# Altium footprint library Footprints.PcbLib: 146 footprints (part 5 of 10)
Each footprint in its own frame and in the unit in brackets; x right, y up, seen from the top. Pads: shape width x height; smd on the part's side, far side on the other; paste and mask are expansions set on the pad; w line width, h text height; cw(c..) or ccw(c..) is an arc to the next point about the centre after c.
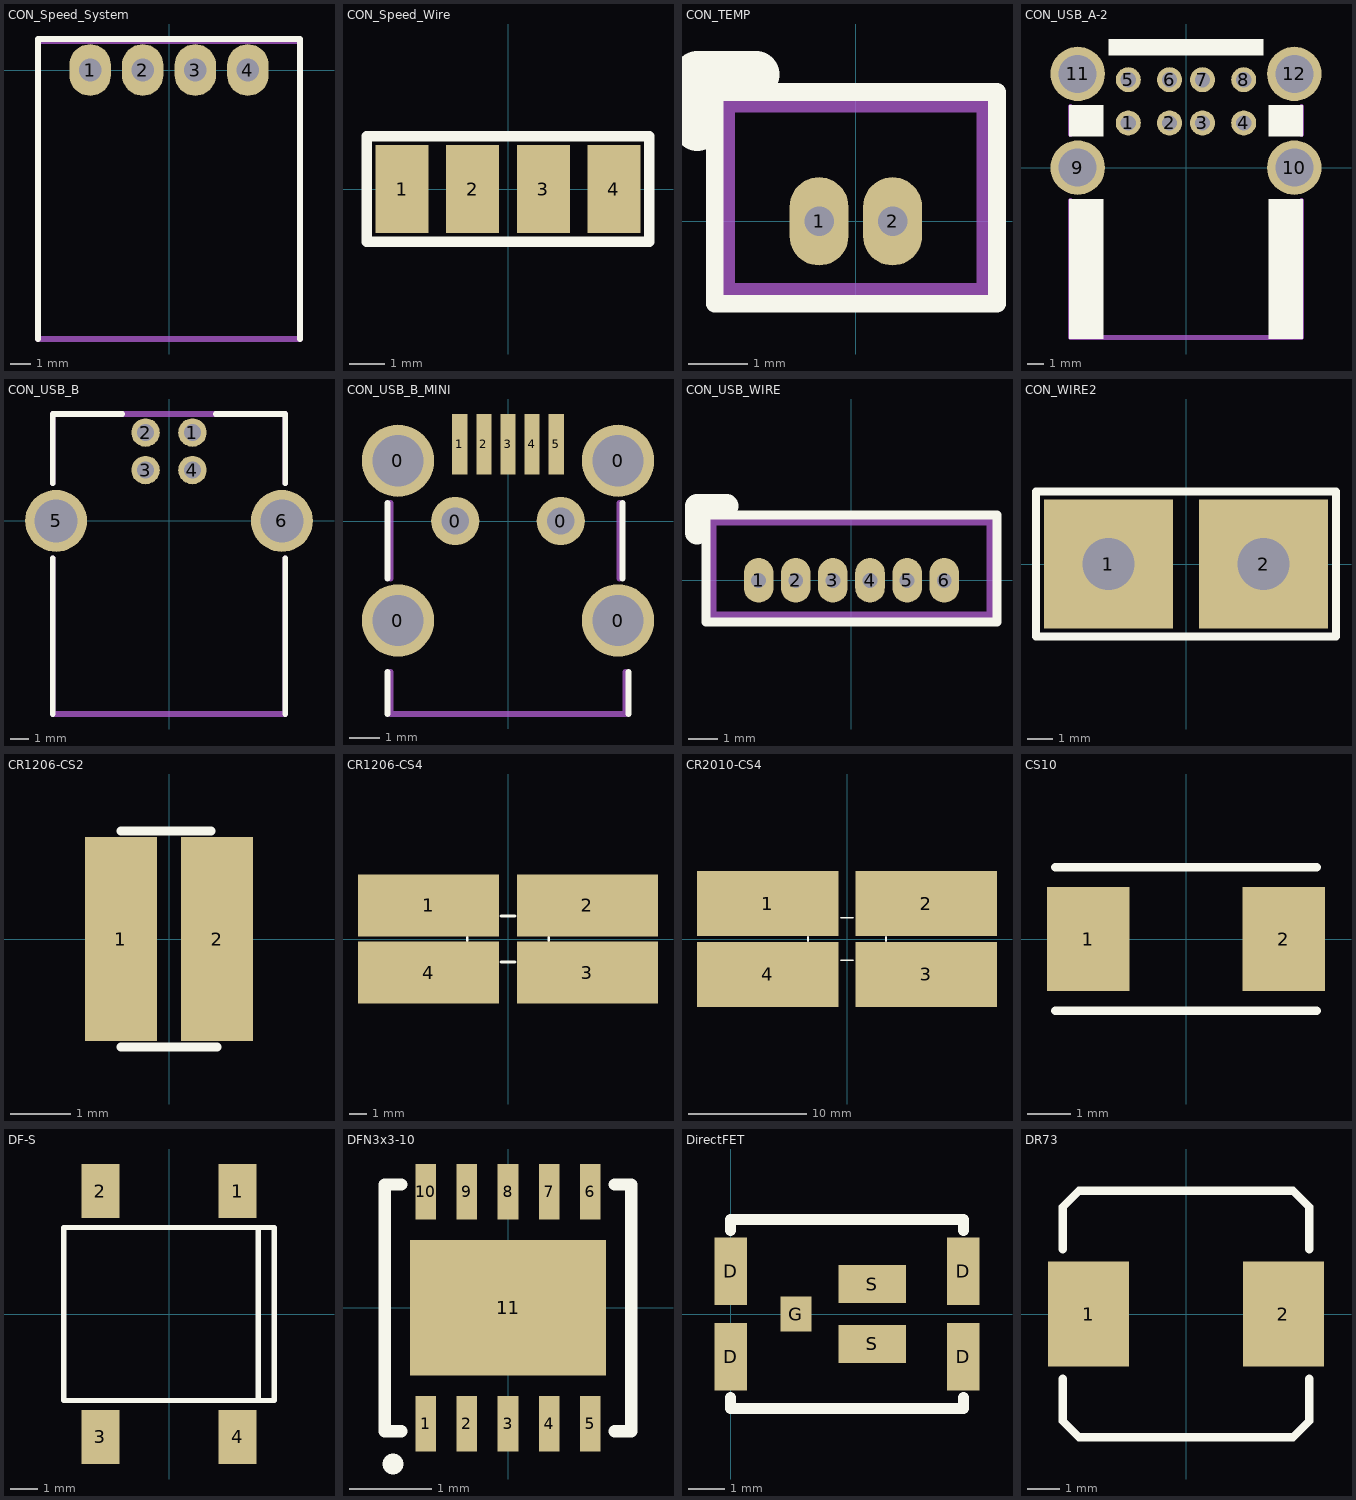
[diagram p4: the footprints below, top view; thin cyan lines are the x and y axes]

## CON_Speed_System [mm] "4-pin Speed connector"
height 4.2
pads (4):
  oval 2x2.5 hole 1.1: 1(-3.81,0) 2(-1.27,0) 3(1.27,0) 4(3.81,0)
Top Overlay:
  lines w0.3: -6.33,-13 -6.33,-1.5 -6.33,1.5 6.3,1.5 ; 6.33,-13 6.33,-1.5 6.33,1.5
Mechanical 1:
  lines w0.3: -6.33,-6.6 -6.33,-1.5 -6.33,1.4 ; 6.33,-6.6 6.33,-1.5 6.33,1.4 ; -6.33,1.4 -6.33,-13 6.33,-13 6.33,1.4 ; -6.33,1.4 6.33,1.4

## CON_Speed_Wire [mm] "4-pin Speed sensor connector - sensor side"
height 2
pads (4):
  rect 1.5x2.5 smd: 1(-3,0) 2(-1,0) 3(1,0) 4(3,0)
Top Overlay:
  lines w0.3: -4,-1.5 4,-1.5 4,1.5 -4,1.5 -4,-1.5

## CON_TEMP [mm] "Temperature Sensor Connector"
pads (2):
  oval 1x1.5 hole 0.5: 1(-0.625,0) 2(0.625,0)
Top Overlay:
  lines w0.3: -2.4,2.2 -2.4,-1.4 2.4,-1.4 2.4,2.2 -2.375,2.2
  lines w0.8: -2.7,1.6 -2.7,2.5 -1.7,2.5
Mechanical 1:
  lines w0.3: -2.2,-1.2 -2.2,2 2.2,2 2.2,-1.2 -2.2,-1.2

## CON_USB_A-2 [mm] "USB Type A Stacked Connector"
pads (12):
  round 1.52 hole 0.92: 1(-3.5,2.71) 2(-1,2.71) 3(1,2.71) 4(3.5,2.71) 5(-3.5,5.33) 6(-1,5.33) 7(1,5.33) 8(3.5,5.33)
  round 3.3 hole 2.3: 9(-6.57,0) 10(6.57,0) 11(-6.57,5.68) 12(6.57,5.68)
Top Overlay:
  rectangle: -7.1,1.9 -5,3.8
  rectangle: -7.1,-10.4 -5,-1.9
  region: 7.1,-1.9 5,-1.9 5,-10.4 7.1,-10.4
  region: 7.1,3.8 5,3.8 5,1.9 7.1,1.9
  rectangle: -4.7,6.8 4.7,7.8
Mechanical 1:
  lines w0.3: -7,-2 -7,-10.3 7,-10.3 7,-2 ; -7,2 -7,3.7 ; -4.5,7 4.5,7 ; 7,2 7,3.7

## CON_USB_B [mm] "USB Type B Connector"
pads (6):
  round 1.52 hole 0.92: 1(1.25,4.71) 2(-1.25,4.71) 3(-1.25,2.71) 4(1.25,2.71)
  round 3.3 hole 2.3: 5(-6.02,0) 6(6.02,0)
Top Overlay:
  lines w0.3: -6.2,-10.3 -6.2,-2 ; -6.2,2 -6.2,5.7 -2.5,5.7 ; 2.5,5.7 6.2,5.7 6.2,2 ; 6.2,-10.3 6.2,-2
Mechanical 1:
  lines w0.3: -6.2,-2 -6.2,-10.3 6.2,-10.3 6.2,-2 ; -6.2,2 -6.2,5.7 6.2,5.7 6.2,2

## CON_USB_B_MINI [mm] "Mini USB Type B Connector"
height 4
pads (11):
  round 2.4 hole 1.7: 0(-3.65,-3.3) 0(-3.65,2) 0(3.65,-3.3) 0(3.65,2)
  round 1.6 hole 0.9: 0(-1.75,0) 0(1.75,0)
  rect 0.5x2 smd: 1(-1.6,2.55) 2(-0.8,2.55) 3(0,2.55) 4(0.8,2.55) 5(1.6,2.55)
Top Overlay:
  lines w0.2: -4,-6.4 -4,-5 ; -4,-1.9 -4,0.6 ; 3.8,-1.9 3.8,0.6 ; 4,-6.4 4,-5
Mechanical 1:
  lines w0.2: -3.9,-5 -3.9,-6.4 3.9,-6.4 3.9,-5 ; -3.9,-1.9 -3.9,0.6 ; 3.7,-1.9 3.7,0.6

## CON_USB_WIRE [mm] "Connector for USB wires"
height 4.2
pads (6):
  oval 1x1.5 hole 0.5: 1(-3.125,0) 2(-1.875,0) 3(-0.625,0) 4(0.625,0) 5(1.875,0) 6(3.125,0)
Top Overlay:
  lines w0.3: -4.9,-1.4 4.9,-1.4 4.9,2.2 -4.9,2.2 -4.9,-1.4
  lines w0.8: -5.2,1.6 -5.2,2.5 -4.2,2.5
Mechanical 1:
  lines w0.3: -4.7,-1.2 4.7,-1.2 4.7,2 -4.7,2 -4.7,-1.2

## CON_WIRE2 [mm] "Direct wire connection"
pads (2):
  rect 5x5 hole 2: 1(-3,0) 2(3,0)
Top Overlay:
  lines w0.3: -5.8,-2.8 5.8,-2.8 5.8,2.8 -5.8,2.8 -5.8,-2.8
Bottom Overlay:
  lines w0.3: -5.8,-2.8 5.8,-2.8 5.8,2.8 -5.8,2.8 -5.8,-2.8

## CR1206-CS2 [mm]
pads (2):
  rect 1.2x3.4 smd: 1(-0.8,0) 2(0.8,0)
Top Overlay:
  lines w0.15: -0.8,-1.8 0.8,-1.8 ; -0.8,1.8 0.7,1.8

## CR1206-CS4 [mm]
pads (4):
  rect 8x3.5 smd: 1(-4.5,1.9) 2(4.5,1.9) 3(4.5,-1.9) 4(-4.5,-1.9)
Top Overlay:
  lines w0.15: -2.3,-0.1 -2.3,0.1 ; -0.4,-1.3 0.4,-1.3 ; -0.4,1.3 0.4,1.3 ; 2.3,-0.1 2.3,0.1

## CR2010-CS4 [mm]
pads (4):
  rect 12x5.5 smd: 1(-6.7,3) 2(6.7,3) 3(6.7,-3) 4(-6.7,-3)
Top Overlay:
  lines w0.15: -3.3,-0.2 -3.3,0.2 ; -0.5,-1.8 0.5,-1.8 ; -0.5,1.8 0.5,1.8 ; 3.3,-0.2 3.3,0.2

## CS10 [mm] "Crystal"
pads (2):
  rect 1.9x2.4 smd: 1(-2.25,0) 2(2.25,0)
Top Overlay:
  lines w0.2: -3,-1.65 3,-1.65 ; -3,1.65 3,1.65

## DF-S [mm] "Diode Bridge 8.3mm x 7.6mm"
height 2
pads (4):
  rect 1.4x2 smd: 1(2.54,4.55) 2(-2.54,4.55) 3(-2.54,-4.55) 4(2.54,-4.55)
Top Overlay:
  lines w0.2: 3.3,-3.2 3.3,3.2 ; -3.9,-3.2 -3.9,3.2 3.9,3.2 3.9,-3.2 -3.9,-3.2

## DFN3x3-10 [mm]
pads (11):
  rect 0.25x0.675 smd: 1(-1,-1.412) 2(-0.5,-1.412) 3(0,-1.412) 4(0.5,-1.412) 5(1,-1.412) 6(1,1.412) 7(0.5,1.412) 8(0,1.412) 9(-0.5,1.412) 10(-1,1.412)
  rect 2.38x1.65 smd: 11(0,0)
Top Overlay:
  circle w0.254: c-1.4,-1.9 r0
  lines w0.15: -1.3,-1.5 -1.5,-1.5 -1.5,1.5 -1.3,1.5 ; 1.3,-1.5 1.5,-1.5 1.5,1.5 1.3,1.5

## DirectFET [mm] "DirectFET Power FET"
height 0.7
pads (7):
  rect 0.9x1.85 smd: D(0,-1.175) D(0,1.175) D(6.41,-1.175) D(6.41,1.175)
  rect 0.85x0.95 smd: G(1.8,0)
  rect 1.85x1.05 smd: S(3.9,-0.825) S(3.9,0.825)
Top Overlay:
  lines w0.3: 0,-2.3 0,-2.6 6.41,-2.6 6.41,-2.3 ; 0,2.3 0,2.6 6.41,2.6 6.41,2.3

## DR73 [mm] "Coil footprint"
pads (2):
  rect 2.5x3.25 smd: 1(-3,0) 2(3,0)
Top Overlay:
  lines w0.254: -3.8,-2 -3.8,-3.3 -3.3,-3.8 3.3,-3.8 3.8,-3.3 3.8,-2 ; -3.8,2 -3.8,3.3 -3.3,3.8 3.3,3.8 3.8,3.3 3.8,2